# Altium integrated library NSC Logic Latch.IntLib: 65 symbols (part 1 of 2)
Pins are listed as number, name and electrical type; pins without a type are passive.

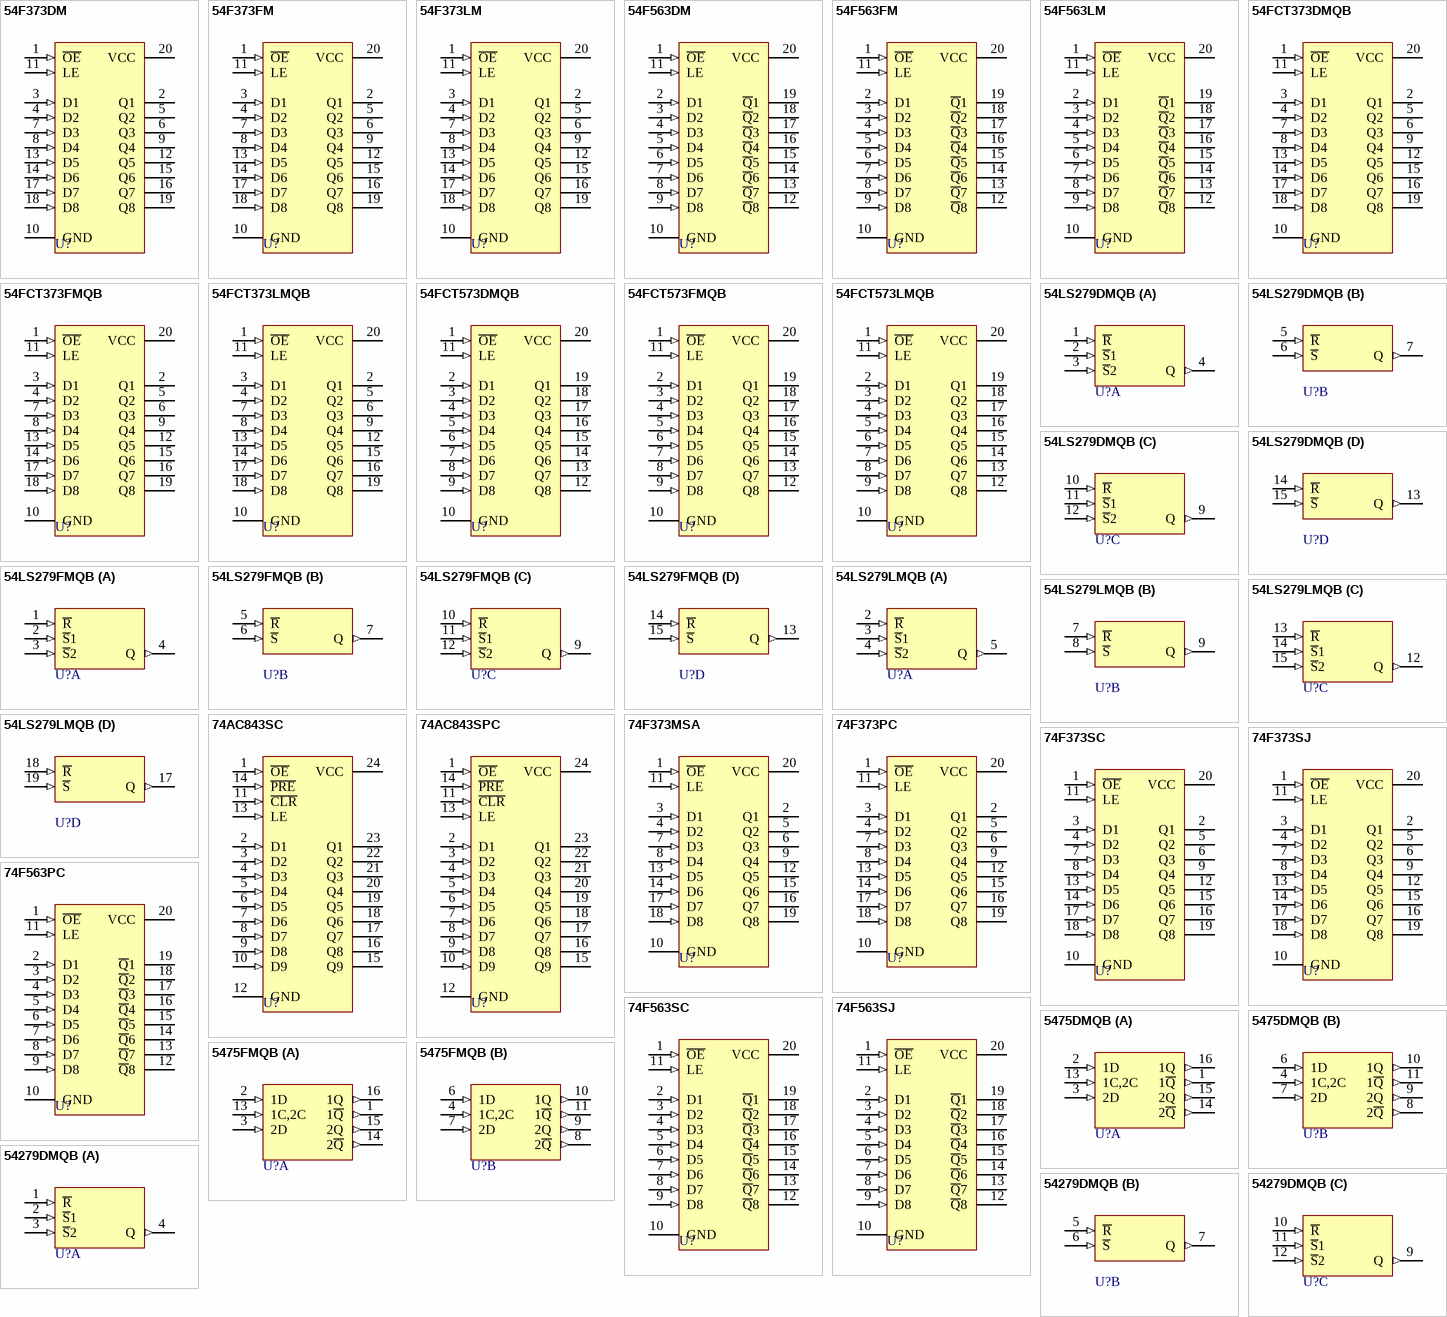
[diagram p0: symbols 54F373DM to 54279DMQB]

## 54F373DM
designator U?
Octal Transparent Latch with Tri-State Output; ComponentAvailability: Obsolete; Published: 15-Apr-2002; LatestRevisionDate: 06-Jun-2005; LatestRevisionNote: Stylized 3D Model Added.; DatasheetVersion: May-1995; PackageVersion: 2000; PackageReference: J20A; Publisher: Altium Limited; PackageDescription: DIP; 20 Leads; Row Spacing 7.62 mm; Pitch 2.54 mm; Code_JEDEC: MS-015-AE; ComponentLink1Description: Manufacturer Link; ComponentLink1URL: http://www.national.com/; ComponentLink2Description: Datasheet; ComponentLink2URL: http://www.national.com/ds.cgi/54/54F373.pdf; ComponentLink3Description: Discontinuation Notice; ComponentLink3URL: http://www.national.com/obs/obsolescence.txt; ComponentLink4Description: URL Link1; ComponentLink4URL: http://www.national.com/pf/54/54F373.html
footprint J20A (DIP; 20 Leads; Row Spacing 7.62 mm; Pitch 2.54 mm)
3D model J20A (DIP; 20 Leads; Row Spacing 7.62 mm; Pitch 2.54 mm)
simulation model 74F373 (SIMCODE)
signal-integrity model 54F373DM
pins: 1 ~{OE} (in), 2 Q1 (hiz), 3 D1 (in), 4 D2 (in), 5 Q2 (hiz), 6 Q3 (hiz), 7 D3 (in), 8 D4 (in), 9 Q4 (hiz), 10 GND (power), 11 LE (in), 12 Q5 (hiz), 13 D5 (in), 14 D6 (in), 15 Q6 (hiz), 16 Q7 (hiz), 17 D7 (in), 18 D8 (in), 19 Q8 (hiz), 20 VCC (power)

## 54F373FM
designator U?
Octal Transparent Latch with Tri-State Output; Published: 15-Apr-2002; LatestRevisionDate: 06-Jun-2005; LatestRevisionNote: Stylized 3D Model Added.; DatasheetVersion: May-1995; PackageVersion: 2000; PackageReference: W20A; Publisher: Altium Limited; PackageDescription: DFP; 20 Leads; Body 13.7 x 7.2 mm (LxW max); Pitch 1.27 mm; ComponentLink1Description: Manufacturer Link; ComponentLink1URL: http://www.national.com/; ComponentLink2Description: Datasheet; ComponentLink2URL: http://www.national.com/ds.cgi/54/54F373.pdf; ComponentLink3Description: URL Link1; ComponentLink3URL: http://www.national.com/pf/54/54F373.html
footprint W20A (DFP; 20 Leads; Body 13.7 x 7.2 mm (LxW max); Pitch 1.27 mm)
3D model W20A (DFP; 20 Leads; Body 13.7 x 7.2 mm (LxW max); Pitch 1.27 mm)
simulation model 74F373 (SIMCODE)
signal-integrity model 54F373FM
pins: 1 ~{OE} (in), 2 Q1 (hiz), 3 D1 (in), 4 D2 (in), 5 Q2 (hiz), 6 Q3 (hiz), 7 D3 (in), 8 D4 (in), 9 Q4 (hiz), 10 GND (power), 11 LE (in), 12 Q5 (hiz), 13 D5 (in), 14 D6 (in), 15 Q6 (hiz), 16 Q7 (hiz), 17 D7 (in), 18 D8 (in), 19 Q8 (hiz), 20 VCC (power)

## 54F373LM
designator U?
Octal Transparent Latch with Tri-State Output; Published: 15-Apr-2002; DatasheetVersion: May-1995; PackageVersion: 2000; PackageReference: E20A; Publisher: Altium Limited; PackageDescription: Leadless Chip Carrier; 20 Terminals; Body 8.9 x 8.9 mm; ComponentLink1Description: Manufacturer Link; ComponentLink1URL: http://www.national.com/; ComponentLink2Description: Datasheet; ComponentLink2URL: http://www.national.com/ds.cgi/54/54F373.pdf; ComponentLink3Description: URL Link1; ComponentLink3URL: http://www.national.com/pf/54/54F373.html
footprint E20A (Leadless Chip Carrier; 20 Terminals; Body 8.9 x 8.9 mm)
signal-integrity model 54F373LM
pins: 1 ~{OE} (in), 2 Q1 (hiz), 3 D1 (in), 4 D2 (in), 5 Q2 (hiz), 6 Q3 (hiz), 7 D3 (in), 8 D4 (in), 9 Q4 (hiz), 10 GND (power), 11 LE (in), 12 Q5 (hiz), 13 D5 (in), 14 D6 (in), 15 Q6 (hiz), 16 Q7 (hiz), 17 D7 (in), 18 D8 (in), 19 Q8 (hiz), 20 VCC (power)

## 54F563DM
designator U?
Octal D-Type Latch with Tri-State Output; Published: 15-Apr-2002; LatestRevisionDate: 06-Jun-2005; LatestRevisionNote: Stylized 3D Model Added.; DatasheetVersion: May-1995; PackageVersion: 2000; PackageReference: J20A; Publisher: Altium Limited; PackageDescription: DIP; 20 Leads; Row Spacing 7.62 mm; Pitch 2.54 mm; Code_JEDEC: MS-015-AE; ComponentLink1Description: Manufacturer Link; ComponentLink1URL: http://www.national.com/; ComponentLink2Description: Datasheet; ComponentLink2URL: http://www.national.com/ds.cgi/54/54F563.pdf; ComponentLink3Description: URL Link1; ComponentLink3URL: http://www.national.com/pf/54/54F563.html
footprint J20A (DIP; 20 Leads; Row Spacing 7.62 mm; Pitch 2.54 mm)
3D model J20A (DIP; 20 Leads; Row Spacing 7.62 mm; Pitch 2.54 mm)
signal-integrity model 54F563DM
pins: 1 ~{OE} (in), 2 D1 (in), 3 D2 (in), 4 D3 (in), 5 D4 (in), 6 D5 (in), 7 D6 (in), 8 D7 (in), 9 D8 (in), 10 GND (power), 11 LE (in), 12 ~{Q}8 (hiz), 13 ~{Q}7 (hiz), 14 ~{Q}6 (hiz), 15 ~{Q}5 (hiz), 16 ~{Q}4 (hiz), 17 ~{Q}3 (hiz), 18 ~{Q}2 (hiz), 19 ~{Q}1 (hiz), 20 VCC (power)

## 54F563FM
designator U?
Octal D-Type Latch with Tri-State Output; Published: 15-Apr-2002; LatestRevisionDate: 06-Jun-2005; LatestRevisionNote: Stylized 3D Model Added.; DatasheetVersion: May-1995; PackageVersion: 2000; PackageReference: W20A; Publisher: Altium Limited; PackageDescription: DFP; 20 Leads; Body 13.7 x 7.2 mm (LxW max); Pitch 1.27 mm; ComponentLink1Description: Manufacturer Link; ComponentLink1URL: http://www.national.com/; ComponentLink2Description: Datasheet; ComponentLink2URL: http://www.national.com/ds.cgi/54/54F563.pdf; ComponentLink3Description: URL Link1; ComponentLink3URL: http://www.national.com/pf/54/54F563.html
footprint W20A (DFP; 20 Leads; Body 13.7 x 7.2 mm (LxW max); Pitch 1.27 mm)
3D model W20A (DFP; 20 Leads; Body 13.7 x 7.2 mm (LxW max); Pitch 1.27 mm)
signal-integrity model 54F563FM
pins: 1 ~{OE} (in), 2 D1 (in), 3 D2 (in), 4 D3 (in), 5 D4 (in), 6 D5 (in), 7 D6 (in), 8 D7 (in), 9 D8 (in), 10 GND (power), 11 LE (in), 12 ~{Q}8 (hiz), 13 ~{Q}7 (hiz), 14 ~{Q}6 (hiz), 15 ~{Q}5 (hiz), 16 ~{Q}4 (hiz), 17 ~{Q}3 (hiz), 18 ~{Q}2 (hiz), 19 ~{Q}1 (hiz), 20 VCC (power)

## 54F563LM
designator U?
Octal D-Type Latch with Tri-State Output; Published: 15-Apr-2002; DatasheetVersion: May-1995; PackageVersion: 2000; PackageReference: E20A; Publisher: Altium Limited; PackageDescription: Leadless Chip Carrier; 20 Terminals; Body 8.9 x 8.9 mm; ComponentLink1Description: Manufacturer Link; ComponentLink1URL: http://www.national.com/; ComponentLink2Description: Datasheet; ComponentLink2URL: http://www.national.com/ds.cgi/54/54F563.pdf; ComponentLink3Description: URL Link1; ComponentLink3URL: http://www.national.com/pf/54/54F563.html
footprint E20A (Leadless Chip Carrier; 20 Terminals; Body 8.9 x 8.9 mm)
signal-integrity model 54F563LM
pins: 1 ~{OE} (in), 2 D1 (in), 3 D2 (in), 4 D3 (in), 5 D4 (in), 6 D5 (in), 7 D6 (in), 8 D7 (in), 9 D8 (in), 10 GND (power), 11 LE (in), 12 ~{Q}8 (hiz), 13 ~{Q}7 (hiz), 14 ~{Q}6 (hiz), 15 ~{Q}5 (hiz), 16 ~{Q}4 (hiz), 17 ~{Q}3 (hiz), 18 ~{Q}2 (hiz), 19 ~{Q}1 (hiz), 20 VCC (power)

## 54FCT373DMQB
designator U?
Octal Transparent Latch with Tri-State Output; Published: 15-Apr-2002; LatestRevisionDate: 06-Jun-2005; LatestRevisionNote: Stylized 3D Model Added.; DatasheetVersion: Oct-1999; PackageVersion: 2000; PackageReference: J20A; Publisher: Altium Limited; PackageDescription: DIP; 20 Leads; Row Spacing 7.62 mm; Pitch 2.54 mm; Code_JEDEC: MS-015-AE; ComponentLink1Description: Manufacturer Link; ComponentLink1URL: http://www.national.com/; ComponentLink2Description: Datasheet; ComponentLink2URL: http://www.national.com/ds.cgi/54/54FCT373.pdf; ComponentLink3Description: URL Link1; ComponentLink3URL: http://www.national.com/pf/54/54FCT373.html
footprint J20A (DIP; 20 Leads; Row Spacing 7.62 mm; Pitch 2.54 mm)
3D model J20A (DIP; 20 Leads; Row Spacing 7.62 mm; Pitch 2.54 mm)
signal-integrity model 54FCT373DMQB
pins: 1 ~{OE} (in), 2 Q1 (hiz), 3 D1 (in), 4 D2 (in), 5 Q2 (hiz), 6 Q3 (hiz), 7 D3 (in), 8 D4 (in), 9 Q4 (hiz), 10 GND (power), 11 LE (in), 12 Q5 (hiz), 13 D5 (in), 14 D6 (in), 15 Q6 (hiz), 16 Q7 (hiz), 17 D7 (in), 18 D8 (in), 19 Q8 (hiz), 20 VCC (power)

## 54FCT373FMQB
designator U?
Octal Transparent Latch with Tri-State Output; Published: 15-Apr-2002; LatestRevisionDate: 06-Jun-2005; LatestRevisionNote: Stylized 3D Model Added.; DatasheetVersion: Oct-1999; PackageVersion: 2000; PackageReference: W20A; Publisher: Altium Limited; PackageDescription: DFP; 20 Leads; Body 13.7 x 7.2 mm (LxW max); Pitch 1.27 mm; ComponentLink1Description: Manufacturer Link; ComponentLink1URL: http://www.national.com/; ComponentLink2Description: Datasheet; ComponentLink2URL: http://www.national.com/ds.cgi/54/54FCT373.pdf; ComponentLink3Description: URL Link1; ComponentLink3URL: http://www.national.com/pf/54/54FCT373.html
footprint W20A (DFP; 20 Leads; Body 13.7 x 7.2 mm (LxW max); Pitch 1.27 mm)
3D model W20A (DFP; 20 Leads; Body 13.7 x 7.2 mm (LxW max); Pitch 1.27 mm)
signal-integrity model 54FCT373FMQB
pins: 1 ~{OE} (in), 2 Q1 (hiz), 3 D1 (in), 4 D2 (in), 5 Q2 (hiz), 6 Q3 (hiz), 7 D3 (in), 8 D4 (in), 9 Q4 (hiz), 10 GND (power), 11 LE (in), 12 Q5 (hiz), 13 D5 (in), 14 D6 (in), 15 Q6 (hiz), 16 Q7 (hiz), 17 D7 (in), 18 D8 (in), 19 Q8 (hiz), 20 VCC (power)

## 54FCT373LMQB
designator U?
Octal Transparent Latch with Tri-State Output; Published: 15-Apr-2002; DatasheetVersion: Oct-1999; PackageVersion: 2000; PackageReference: E20A; Publisher: Altium Limited; PackageDescription: Leadless Chip Carrier; 20 Terminals; Body 8.9 x 8.9 mm; ComponentLink1Description: Manufacturer Link; ComponentLink1URL: http://www.national.com/; ComponentLink2Description: Datasheet; ComponentLink2URL: http://www.national.com/ds.cgi/54/54FCT373.pdf; ComponentLink3Description: URL Link1; ComponentLink3URL: http://www.national.com/pf/54/54FCT373.html
footprint E20A (Leadless Chip Carrier; 20 Terminals; Body 8.9 x 8.9 mm)
signal-integrity model 54FCT373LMQB
pins: 1 ~{OE} (in), 2 Q1 (hiz), 3 D1 (in), 4 D2 (in), 5 Q2 (hiz), 6 Q3 (hiz), 7 D3 (in), 8 D4 (in), 9 Q4 (hiz), 10 GND (power), 11 LE (in), 12 Q5 (hiz), 13 D5 (in), 14 D6 (in), 15 Q6 (hiz), 16 Q7 (hiz), 17 D7 (in), 18 D8 (in), 19 Q8 (hiz), 20 VCC (power)

## 54FCT573DMQB
designator U?
Octal D-Type Latch with Tri-State Output; Published: 15-Apr-2002; LatestRevisionDate: 06-Jun-2005; LatestRevisionNote: Stylized 3D Model Added.; DatasheetVersion: Aug-1998; PackageVersion: 2000; PackageReference: J20A; Publisher: Altium Limited; PackageDescription: DIP; 20 Leads; Row Spacing 7.62 mm; Pitch 2.54 mm; Code_JEDEC: MS-015-AE; ComponentLink1Description: Manufacturer Link; ComponentLink1URL: http://www.national.com/; ComponentLink2Description: Datasheet; ComponentLink2URL: http://www.national.com/ds.cgi/54/54FCT573.pdf; ComponentLink3Description: URL Link1; ComponentLink3URL: http://www.national.com/pf/54/54FCT573.html
footprint J20A (DIP; 20 Leads; Row Spacing 7.62 mm; Pitch 2.54 mm)
3D model J20A (DIP; 20 Leads; Row Spacing 7.62 mm; Pitch 2.54 mm)
signal-integrity model 54FCT573DMQB
pins: 1 ~{OE} (in), 2 D1 (in), 3 D2 (in), 4 D3 (in), 5 D4 (in), 6 D5 (in), 7 D6 (in), 8 D7 (in), 9 D8 (in), 10 GND (power), 11 LE (in), 12 Q8 (hiz), 13 Q7 (hiz), 14 Q6 (hiz), 15 Q5 (hiz), 16 Q4 (hiz), 17 Q3 (hiz), 18 Q2 (hiz), 19 Q1 (hiz), 20 VCC (power)

## 54FCT573FMQB
designator U?
Octal D-Type Latch with Tri-State Output; Published: 15-Apr-2002; LatestRevisionDate: 06-Jun-2005; LatestRevisionNote: Stylized 3D Model Added.; DatasheetVersion: Aug-1998; PackageVersion: 2000; PackageReference: W20A; Publisher: Altium Limited; PackageDescription: DFP; 20 Leads; Body 13.7 x 7.2 mm (LxW max); Pitch 1.27 mm; ComponentLink1Description: Manufacturer Link; ComponentLink1URL: http://www.national.com/; ComponentLink2Description: Datasheet; ComponentLink2URL: http://www.national.com/ds.cgi/54/54FCT573.pdf; ComponentLink3Description: URL Link1; ComponentLink3URL: http://www.national.com/pf/54/54FCT573.html
footprint W20A (DFP; 20 Leads; Body 13.7 x 7.2 mm (LxW max); Pitch 1.27 mm)
3D model W20A (DFP; 20 Leads; Body 13.7 x 7.2 mm (LxW max); Pitch 1.27 mm)
signal-integrity model 54FCT573FMQB
pins: 1 ~{OE} (in), 2 D1 (in), 3 D2 (in), 4 D3 (in), 5 D4 (in), 6 D5 (in), 7 D6 (in), 8 D7 (in), 9 D8 (in), 10 GND (power), 11 LE (in), 12 Q8 (hiz), 13 Q7 (hiz), 14 Q6 (hiz), 15 Q5 (hiz), 16 Q4 (hiz), 17 Q3 (hiz), 18 Q2 (hiz), 19 Q1 (hiz), 20 VCC (power)

## 54FCT573LMQB
designator U?
Octal D-Type Latch with Tri-State Output; Published: 15-Apr-2002; DatasheetVersion: Aug-1998; PackageVersion: 2000; PackageReference: E20A; Publisher: Altium Limited; PackageDescription: Leadless Chip Carrier; 20 Terminals; Body 8.9 x 8.9 mm; ComponentLink1Description: Manufacturer Link; ComponentLink1URL: http://www.national.com/; ComponentLink2Description: Datasheet; ComponentLink2URL: http://www.national.com/ds.cgi/54/54FCT573.pdf; ComponentLink3Description: URL Link1; ComponentLink3URL: http://www.national.com/pf/54/54FCT573.html
footprint E20A (Leadless Chip Carrier; 20 Terminals; Body 8.9 x 8.9 mm)
signal-integrity model 54FCT573LMQB
pins: 1 ~{OE} (in), 2 D1 (in), 3 D2 (in), 4 D3 (in), 5 D4 (in), 6 D5 (in), 7 D6 (in), 8 D7 (in), 9 D8 (in), 10 GND (power), 11 LE (in), 12 Q8 (hiz), 13 Q7 (hiz), 14 Q6 (hiz), 15 Q5 (hiz), 16 Q4 (hiz), 17 Q3 (hiz), 18 Q2 (hiz), 19 Q1 (hiz), 20 VCC (power)

## 54LS279DMQB
designator U?
Quad S-R Latch; Published: 15-Apr-2002; LatestRevisionDate: 06-Jun-2005; LatestRevisionNote: Stylized 3D Model Added.; DatasheetVersion: May-1989; PackageVersion: 2000; PackageReference: J16A; Publisher: Altium Limited; PackageDescription: DIP; 16 Leads; Row Spacing 7.62 mm; Pitch 2.54 mm; ComponentLink1Description: Manufacturer Link; ComponentLink1URL: http://www.national.com/; ComponentLink2Description: Datasheet; ComponentLink2URL: http://www.national.com/ds.cgi/54/54LS279.pdf; ComponentLink3Description: URL Link1; ComponentLink3URL: http://www.national.com/pf/54/54LS279.html
footprint J16A (DIP; 16 Leads; Row Spacing 7.62 mm; Pitch 2.54 mm)
3D model N16E (DIP; 16 Leads; Row Spacing 7.62 mm; Pitch 2.54 mm)
signal-integrity model 54LS279DMQB
pins on every part: 8 GND (power) hidden to GND, 16 VCC (power) hidden to VCC
part A pins: 1 ~{R} (in), 2 ~{S}1 (in), 3 ~{S}2 (in), 4 Q (out)
part B pins: 5 ~{R} (in), 6 ~{S} (in), 7 Q (out)
part C pins: 9 Q (out), 10 ~{R} (in), 11 ~{S}1 (in), 12 ~{S}2 (in)
part D pins: 13 Q (out), 14 ~{R} (in), 15 ~{S} (in)

## 54LS279FMQB
designator U?
Quad S-R Latch; Published: 15-Apr-2002; LatestRevisionDate: 06-Jun-2005; LatestRevisionNote: Stylized 3D Model Added.; DatasheetVersion: May-1989; PackageVersion: 2000; PackageReference: W16A; Publisher: Altium Limited; PackageDescription: DFP; 16 Leads; Body 9.9 x 7.6 mm (LxW max); Pitch 1.27 mm; ComponentLink1Description: Manufacturer Link; ComponentLink1URL: http://www.national.com/; ComponentLink2Description: Datasheet; ComponentLink2URL: http://www.national.com/ds.cgi/54/54LS279.pdf; ComponentLink3Description: URL Link1; ComponentLink3URL: http://www.national.com/pf/54/54LS279.html
footprint W16A (DFP; 16 Leads; Body 9.9 x 7.6 mm (LxW max); Pitch 1.27 mm)
3D model W16A (DFP; 16 Leads; Body 9.9 x 7.6 mm (LxW max); Pitch 1.27 mm)
signal-integrity model 54LS279FMQB
pins on every part: 8 GND (power) hidden to GND, 16 VCC (power) hidden to VCC
part A pins: 1 ~{R} (in), 2 ~{S}1 (in), 3 ~{S}2 (in), 4 Q (out)
part B pins: 5 ~{R} (in), 6 ~{S} (in), 7 Q (out)
part C pins: 9 Q (out), 10 ~{R} (in), 11 ~{S}1 (in), 12 ~{S}2 (in)
part D pins: 13 Q (out), 14 ~{R} (in), 15 ~{S} (in)

## 54LS279LMQB
designator U?
Quad S-R Latch; Note: Pins 1,6,11 and 16 are not connected and not drawn; Published: 15-Apr-2002; DatasheetVersion: May-1989; PackageVersion: 2000; PackageReference: E20A; Publisher: Altium Limited; PackageDescription: Leadless Chip Carrier; 20 Terminals; Body 8.9 x 8.9 mm; ComponentLink1Description: Manufacturer Link; ComponentLink1URL: http://www.national.com/; ComponentLink2Description: Datasheet; ComponentLink2URL: http://www.national.com/ds.cgi/54/54LS279.pdf; ComponentLink3Description: URL Link1; ComponentLink3URL: http://www.national.com/pf/54/54LS279.html
footprint E20A (Leadless Chip Carrier; 20 Terminals; Body 8.9 x 8.9 mm)
signal-integrity model 54LS279LMQB
pins on every part: 10 GND (power) hidden to GND, 20 VCC (power) hidden to VCC
part A pins: 2 ~{R} (in), 3 ~{S}1 (in), 4 ~{S}2 (in), 5 Q (out)
part B pins: 7 ~{R} (in), 8 ~{S} (in), 9 Q (out)
part C pins: 12 Q (out), 13 ~{R} (in), 14 ~{S}1 (in), 15 ~{S}2 (in)
part D pins: 17 Q (out), 18 ~{R} (in), 19 ~{S} (in)

## 74AC843SC
designator U?
9-Bit Transparent Latch; Published: 15-Apr-2002; LatestRevisionDate: 13-Apr-2006; LatestRevisionNote: IPC-7351 Footprint Added.; DatasheetVersion: Apr-1993; PackageVersion: 2000; PackageReference: M24B; Publisher: Altium Limited; PackageDescription: 24-Pin Small Outline Integrated Circuit 1.27 mm Pitch; ComponentLink1Description: Manufacturer Link; ComponentLink1URL: http://www.national.com/
footprint M24B_N (SOIC, 24-Leads, Body 15.4x7.5mm, Pitch 1.27mm, IPC Medium Density)
footprint M24B_L (SOIC, 24-Leads, Body 15.4x7.5mm, Pitch 1.27mm, IPC High Density)
footprint M24B_M (SOIC, 24-Leads, Body 15.4x7.5mm, Pitch 1.27mm, IPC Low Density)
3D model M24B (24-Pin Small Outline Integrated Circuit 1.27 mm Pitch)
signal-integrity model 74AC843SC
pins: 1 ~{OE} (in), 2 D1 (in), 3 D2 (in), 4 D3 (in), 5 D4 (in), 6 D5 (in), 7 D6 (in), 8 D7 (in), 9 D8 (in), 10 D9 (in), 11 ~{CLR} (in), 12 GND (power), 13 LE (in), 14 ~{PRE} (in), 15 Q9 (hiz), 16 Q8 (hiz), 17 Q7 (hiz), 18 Q6 (hiz), 19 Q5 (hiz), 20 Q4 (hiz), 21 Q3 (hiz), 22 Q2 (hiz), 23 Q1 (hiz), 24 VCC (power)

## 74AC843SPC
designator U?
9-Bit Transparent Latch; Published: 15-Apr-2002; LatestRevisionDate: 06-Jun-2005; LatestRevisionNote: Stylized 3D Model Added.; DatasheetVersion: Apr-1993; PackageVersion: 2000; PackageReference: N24C; Publisher: Altium Limited; PackageDescription: DIP; 24 Leads; Row Spacing 7.62 mm; Pitch 2.54 mm; Code_JEDEC: MS-001-AF; ComponentLink1Description: Manufacturer Link; ComponentLink1URL: http://www.national.com/
footprint N24C (DIP; 24 Leads; Row Spacing 7.62 mm; Pitch 2.54 mm)
3D model N24C (DIP; 24 Leads; Row Spacing 7.62 mm; Pitch 2.54 mm)
signal-integrity model 74AC843SPC
pins: 1 ~{OE} (in), 2 D1 (in), 3 D2 (in), 4 D3 (in), 5 D4 (in), 6 D5 (in), 7 D6 (in), 8 D7 (in), 9 D8 (in), 10 D9 (in), 11 ~{CLR} (in), 12 GND (power), 13 LE (in), 14 ~{PRE} (in), 15 Q9 (hiz), 16 Q8 (hiz), 17 Q7 (hiz), 18 Q6 (hiz), 19 Q5 (hiz), 20 Q4 (hiz), 21 Q3 (hiz), 22 Q2 (hiz), 23 Q1 (hiz), 24 VCC (power)

## 74F373MSA
designator U?
Octal Transparent Latch with Tri-State Output; Published: 15-Apr-2002; LatestRevisionDate: 06-Jun-2005; LatestRevisionNote: Stylized 3D Model Added.; DatasheetVersion: May-1995; PackageVersion: 2000; PackageReference: MSA20; Publisher: Altium Limited; PackageDescription: SSOP; 20 Leads; Body Width 5.3 mm; Pitch 0.65 mm; ComponentLink1Description: Manufacturer Link; ComponentLink1URL: http://www.national.com/; ComponentLink2Description: Datasheet; ComponentLink2URL: http://www.fairchildsemi.com/ds/74/74F373.pdf; ComponentLink3Description: URL Link1; ComponentLink3URL: http://www.fairchildsemi.com/pf/74/74F373.html
footprint MSA20 (SSOP; 20 Leads; Body Width 5.3 mm; Pitch 0.65 mm)
3D model MSA20 (SSOP; 20 Leads; Body Width 5.3 mm; Pitch 0.65 mm)
simulation model 74F373 (SIMCODE)
signal-integrity model 74F373MSA
pins: 1 ~{OE} (in), 2 Q1 (hiz), 3 D1 (in), 4 D2 (in), 5 Q2 (hiz), 6 Q3 (hiz), 7 D3 (in), 8 D4 (in), 9 Q4 (hiz), 10 GND (power), 11 LE (in), 12 Q5 (hiz), 13 D5 (in), 14 D6 (in), 15 Q6 (hiz), 16 Q7 (hiz), 17 D7 (in), 18 D8 (in), 19 Q8 (hiz), 20 VCC (power)

## 74F373PC
designator U?
Octal Transparent Latch with Tri-State Output; Published: 15-Apr-2002; LatestRevisionDate: 06-Jun-2005; LatestRevisionNote: Stylized 3D Model Added.; DatasheetVersion: May-1995; PackageVersion: 2000; PackageReference: N20A; Publisher: Altium Limited; PackageDescription: DIP; 20 Leads; Row Spacing 7.62 mm; Pitch 2.54 mm; Code_JEDEC: MS-001-AD; ComponentLink1Description: Manufacturer Link; ComponentLink1URL: http://www.national.com/; ComponentLink2Description: Datasheet; ComponentLink2URL: http://www.fairchildsemi.com/ds/74/74F373.pdf; ComponentLink3Description: URL Link1; ComponentLink3URL: http://www.fairchildsemi.com/pf/74/74F373.html
footprint N20A (DIP; 20 Leads; Row Spacing 7.62 mm; Pitch 2.54 mm)
3D model N20A (DIP; 20 Leads; Row Spacing 7.62 mm; Pitch 2.54 mm)
simulation model 74F373 (SIMCODE)
signal-integrity model 74F373PC
pins: 1 ~{OE} (in), 2 Q1 (hiz), 3 D1 (in), 4 D2 (in), 5 Q2 (hiz), 6 Q3 (hiz), 7 D3 (in), 8 D4 (in), 9 Q4 (hiz), 10 GND (power), 11 LE (in), 12 Q5 (hiz), 13 D5 (in), 14 D6 (in), 15 Q6 (hiz), 16 Q7 (hiz), 17 D7 (in), 18 D8 (in), 19 Q8 (hiz), 20 VCC (power)

## 74F373SC
designator U?
Octal Transparent Latch with Tri-State Output; Published: 15-Apr-2002; LatestRevisionDate: 13-Apr-2006; LatestRevisionNote: IPC-7351 Footprint Added.; DatasheetVersion: May-1995; PackageVersion: 2000; PackageReference: M20B; Publisher: Altium Limited; PackageDescription: 20-Pin Small Outline Integrated Circuit 1.27 mm Pitch; Code_JEDEC: MS-013-AC; Code_IPC: SOIC127P1030-20; ComponentLink1Description: Manufacturer Link; ComponentLink1URL: http://www.national.com/; ComponentLink2Description: Datasheet; ComponentLink2URL: http://www.fairchildsemi.com/ds/74/74F373.pdf; ComponentLink3Description: URL Link1; ComponentLink3URL: http://www.fairchildsemi.com/pf/74/74F373.html
footprint M20B_N (SOIC, 20-Leads, Body 12.8x7.5mm, Pitch 1.27mm, IPC Medium Density)
footprint M20B_L (SOIC, 20-Leads, Body 12.8x7.5mm, Pitch 1.27mm, IPC High Density)
footprint M20B_M (SOIC, 20-Leads, Body 12.8x7.5mm, Pitch 1.27mm, IPC Low Density)
3D model M20B (20-Pin Small Outline Integrated Circuit 1.27 mm Pitch)
simulation model 74F373 (SIMCODE)
signal-integrity model 74F373SC
pins: 1 ~{OE} (in), 2 Q1 (hiz), 3 D1 (in), 4 D2 (in), 5 Q2 (hiz), 6 Q3 (hiz), 7 D3 (in), 8 D4 (in), 9 Q4 (hiz), 10 GND (power), 11 LE (in), 12 Q5 (hiz), 13 D5 (in), 14 D6 (in), 15 Q6 (hiz), 16 Q7 (hiz), 17 D7 (in), 18 D8 (in), 19 Q8 (hiz), 20 VCC (power)

## 74F373SJ
designator U?
Octal Transparent Latch with Tri-State Output; Published: 15-Apr-2002; LatestRevisionDate: 13-Apr-2006; LatestRevisionNote: IPC-7351 Footprint Added.; DatasheetVersion: May-1995; PackageVersion: 2000; PackageReference: M20D; Publisher: Altium Limited; PackageDescription: 20-Pin Small Outline Package 1.27 mm Pitch; ComponentLink1Description: Manufacturer Link; ComponentLink1URL: http://www.national.com/; ComponentLink2Description: Datasheet; ComponentLink2URL: http://www.fairchildsemi.com/ds/74/74F373.pdf; ComponentLink3Description: URL Link1; ComponentLink3URL: http://www.fairchildsemi.com/pf/74/74F373.html
footprint M20D_N (SOP, 20-Leads, Body 12.6x5.3mm, Pitch 1.27mm, IPC Medium Density)
footprint M20D_L (SOP, 20-Leads, Body 12.6x5.3mm, Pitch 1.27mm, IPC High Density)
footprint M20D_M (SOP, 20-Leads, Body 12.6x5.3mm, Pitch 1.27mm, IPC Low Density)
3D model M20D (20-Pin Small Outline Package 1.27 mm Pitch)
simulation model 74F373 (SIMCODE)
signal-integrity model 74F373SJ
pins: 1 ~{OE} (in), 2 Q1 (hiz), 3 D1 (in), 4 D2 (in), 5 Q2 (hiz), 6 Q3 (hiz), 7 D3 (in), 8 D4 (in), 9 Q4 (hiz), 10 GND (power), 11 LE (in), 12 Q5 (hiz), 13 D5 (in), 14 D6 (in), 15 Q6 (hiz), 16 Q7 (hiz), 17 D7 (in), 18 D8 (in), 19 Q8 (hiz), 20 VCC (power)

## 74F563PC
designator U?
Octal D-Type Latch with Tri-State Output; Published: 15-Apr-2002; LatestRevisionDate: 06-Jun-2005; LatestRevisionNote: Stylized 3D Model Added.; DatasheetVersion: May-1995; PackageVersion: 2000; PackageReference: N20A; Publisher: Altium Limited; PackageDescription: DIP; 20 Leads; Row Spacing 7.62 mm; Pitch 2.54 mm; Code_JEDEC: MS-001-AD; ComponentLink1Description: Manufacturer Link; ComponentLink1URL: http://www.national.com/; ComponentLink2Description: Datasheet; ComponentLink2URL: http://www.national.com/ds.cgi/54/54F563.pdf; ComponentLink3Description: URL Link1; ComponentLink3URL: http://www.national.com/pf/54/54F563.html
footprint N20A (DIP; 20 Leads; Row Spacing 7.62 mm; Pitch 2.54 mm)
3D model N20A (DIP; 20 Leads; Row Spacing 7.62 mm; Pitch 2.54 mm)
signal-integrity model 74F563PC
pins: 1 ~{OE} (in), 2 D1 (in), 3 D2 (in), 4 D3 (in), 5 D4 (in), 6 D5 (in), 7 D6 (in), 8 D7 (in), 9 D8 (in), 10 GND (power), 11 LE (in), 12 ~{Q}8 (hiz), 13 ~{Q}7 (hiz), 14 ~{Q}6 (hiz), 15 ~{Q}5 (hiz), 16 ~{Q}4 (hiz), 17 ~{Q}3 (hiz), 18 ~{Q}2 (hiz), 19 ~{Q}1 (hiz), 20 VCC (power)

## 74F563SC
designator U?
Octal D-Type Latch with Tri-State Output; Published: 15-Apr-2002; LatestRevisionDate: 13-Apr-2006; LatestRevisionNote: IPC-7351 Footprint Added.; DatasheetVersion: May-1995; PackageVersion: 2000; PackageReference: M20B; Publisher: Altium Limited; PackageDescription: 20-Pin Small Outline Integrated Circuit 1.27 mm Pitch; Code_JEDEC: MS-013-AC; Code_IPC: SOIC127P1030-20; ComponentLink1Description: Manufacturer Link; ComponentLink1URL: http://www.national.com/; ComponentLink2Description: Datasheet; ComponentLink2URL: http://www.national.com/ds.cgi/54/54F563.pdf; ComponentLink3Description: URL Link1; ComponentLink3URL: http://www.national.com/pf/54/54F563.html
footprint M20B_N (SOIC, 20-Leads, Body 12.8x7.5mm, Pitch 1.27mm, IPC Medium Density)
footprint M20B_L (SOIC, 20-Leads, Body 12.8x7.5mm, Pitch 1.27mm, IPC High Density)
footprint M20B_M (SOIC, 20-Leads, Body 12.8x7.5mm, Pitch 1.27mm, IPC Low Density)
3D model M20B (20-Pin Small Outline Integrated Circuit 1.27 mm Pitch)
signal-integrity model 74F563SC
pins: 1 ~{OE} (in), 2 D1 (in), 3 D2 (in), 4 D3 (in), 5 D4 (in), 6 D5 (in), 7 D6 (in), 8 D7 (in), 9 D8 (in), 10 GND (power), 11 LE (in), 12 ~{Q}8 (hiz), 13 ~{Q}7 (hiz), 14 ~{Q}6 (hiz), 15 ~{Q}5 (hiz), 16 ~{Q}4 (hiz), 17 ~{Q}3 (hiz), 18 ~{Q}2 (hiz), 19 ~{Q}1 (hiz), 20 VCC (power)

## 74F563SJ
designator U?
Octal D-Type Latch with Tri-State Output; Published: 15-Apr-2002; LatestRevisionDate: 13-Apr-2006; LatestRevisionNote: IPC-7351 Footprint Added.; DatasheetVersion: May-1995; PackageVersion: 2000; PackageReference: M20D; Publisher: Altium Limited; PackageDescription: 20-Pin Small Outline Package 1.27 mm Pitch; ComponentLink1Description: Manufacturer Link; ComponentLink1URL: http://www.national.com/; ComponentLink2Description: Datasheet; ComponentLink2URL: http://www.national.com/ds.cgi/54/54F563.pdf; ComponentLink3Description: URL Link1; ComponentLink3URL: http://www.national.com/pf/54/54F563.html
footprint M20D_N (SOP, 20-Leads, Body 12.6x5.3mm, Pitch 1.27mm, IPC Medium Density)
footprint M20D_L (SOP, 20-Leads, Body 12.6x5.3mm, Pitch 1.27mm, IPC High Density)
footprint M20D_M (SOP, 20-Leads, Body 12.6x5.3mm, Pitch 1.27mm, IPC Low Density)
3D model M20D (20-Pin Small Outline Package 1.27 mm Pitch)
signal-integrity model 74F563SJ
pins: 1 ~{OE} (in), 2 D1 (in), 3 D2 (in), 4 D3 (in), 5 D4 (in), 6 D5 (in), 7 D6 (in), 8 D7 (in), 9 D8 (in), 10 GND (power), 11 LE (in), 12 ~{Q}8 (hiz), 13 ~{Q}7 (hiz), 14 ~{Q}6 (hiz), 15 ~{Q}5 (hiz), 16 ~{Q}4 (hiz), 17 ~{Q}3 (hiz), 18 ~{Q}2 (hiz), 19 ~{Q}1 (hiz), 20 VCC (power)

## 5475DMQB
designator U?
Quad Latch; Published: 15-Apr-2002; LatestRevisionDate: 06-Jun-2005; LatestRevisionNote: Stylized 3D Model Added.; DatasheetVersion: Jun-1989; PackageVersion: 2000; PackageReference: J16A; Publisher: Altium Limited; PackageDescription: DIP; 16 Leads; Row Spacing 7.62 mm; Pitch 2.54 mm; ComponentLink1Description: Manufacturer Link; ComponentLink1URL: http://www.national.com/
footprint J16A (DIP; 16 Leads; Row Spacing 7.62 mm; Pitch 2.54 mm)
3D model N16E (DIP; 16 Leads; Row Spacing 7.62 mm; Pitch 2.54 mm)
signal-integrity model 5475DMQB
pins on every part: 5 VCC (power) hidden to VCC, 12 GND (power) hidden to GND
part A pins: 1 1~{Q} (out), 2 1D (in), 3 2D (in), 13 1C,2C (in), 14 2~{Q} (out), 15 2Q (out), 16 1Q (out)
part B pins: 4 1C,2C (in), 6 1D (in), 7 2D (in), 8 2~{Q} (out), 9 2Q (out), 10 1Q (out), 11 1~{Q} (out)

## 5475FMQB
designator U?
Quad Latch; Published: 15-Apr-2002; LatestRevisionDate: 06-Jun-2005; LatestRevisionNote: Stylized 3D Model Added.; DatasheetVersion: Jun-1989; PackageVersion: 2000; PackageReference: W16A; Publisher: Altium Limited; PackageDescription: DFP; 16 Leads; Body 9.9 x 7.6 mm (LxW max); Pitch 1.27 mm; ComponentLink1Description: Manufacturer Link; ComponentLink1URL: http://www.national.com/
footprint W16A (DFP; 16 Leads; Body 9.9 x 7.6 mm (LxW max); Pitch 1.27 mm)
3D model W16A (DFP; 16 Leads; Body 9.9 x 7.6 mm (LxW max); Pitch 1.27 mm)
signal-integrity model 5475FMQB
pins on every part: 5 VCC (power) hidden to VCC, 12 GND (power) hidden to GND
part A pins: 1 1~{Q} (out), 2 1D (in), 3 2D (in), 13 1C,2C (in), 14 2~{Q} (out), 15 2Q (out), 16 1Q (out)
part B pins: 4 1C,2C (in), 6 1D (in), 7 2D (in), 8 2~{Q} (out), 9 2Q (out), 10 1Q (out), 11 1~{Q} (out)

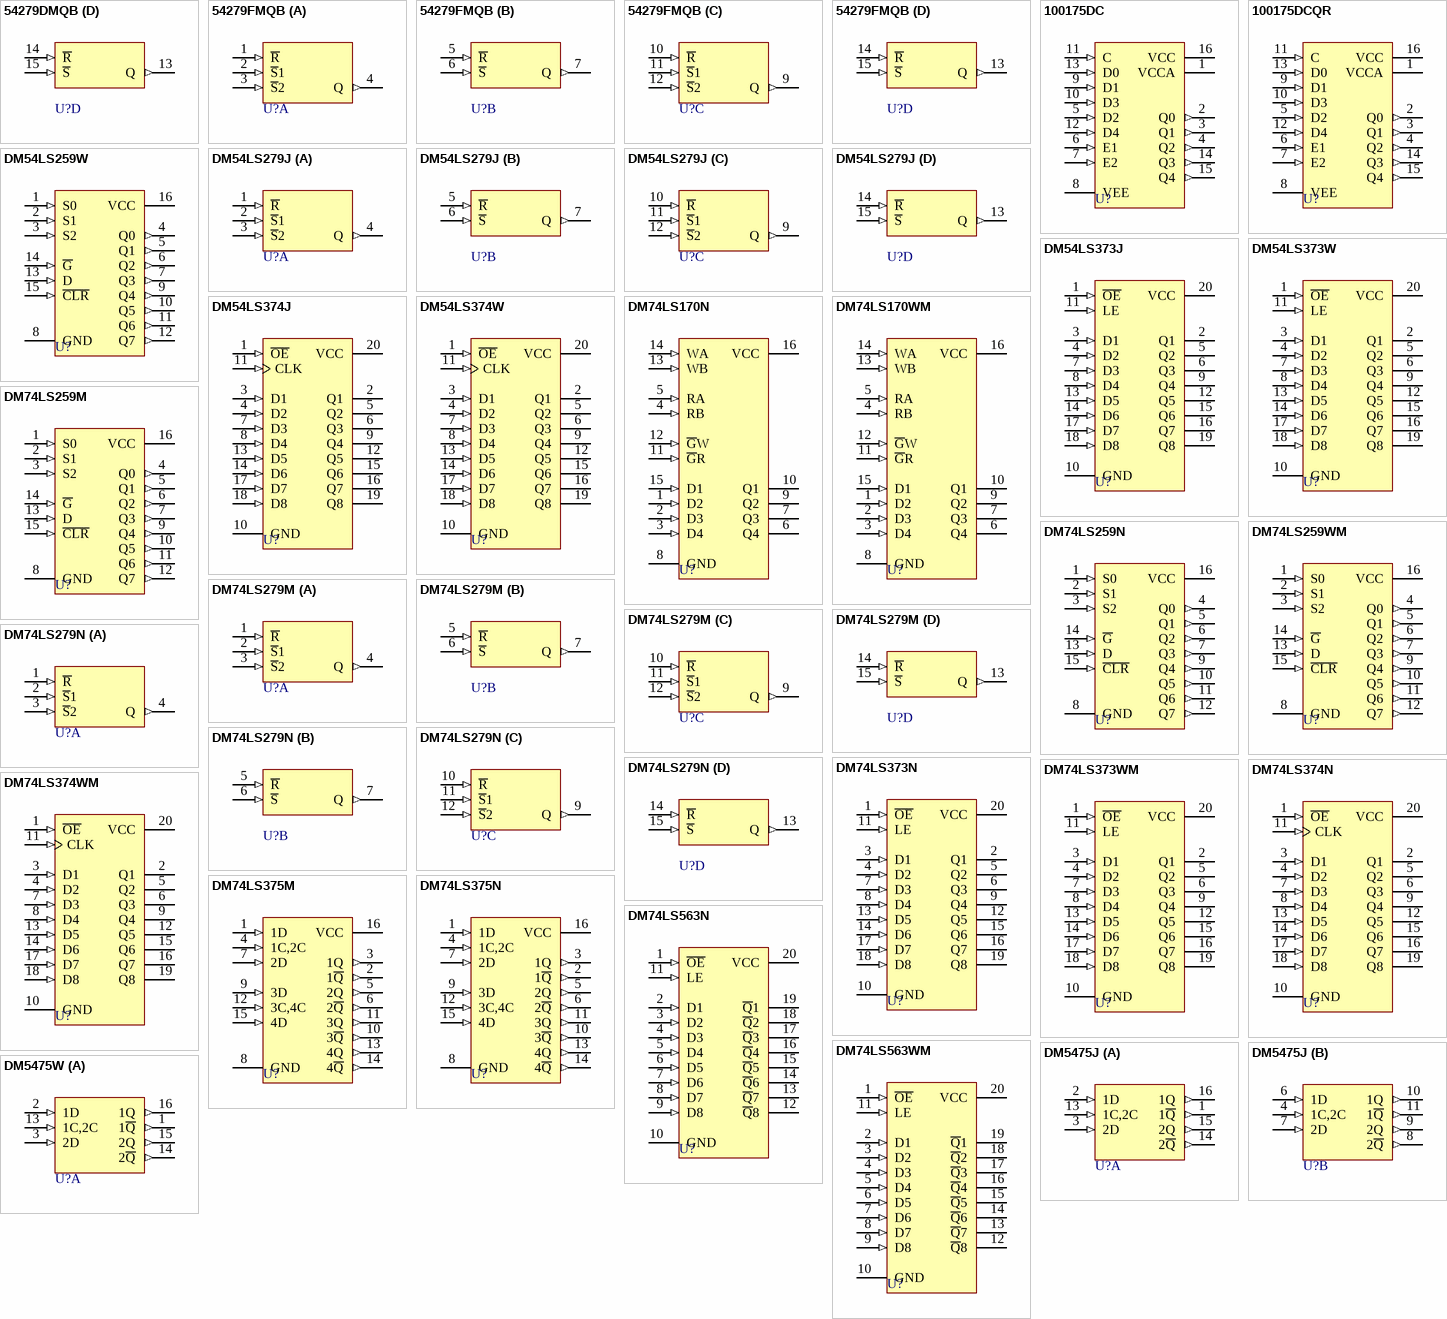
[diagram p1: symbols 54279DMQB to DM5475W]

## 54279DMQB
designator U?
Quad Set-Reset Latch; Published: 15-Apr-2002; LatestRevisionDate: 06-Jun-2005; LatestRevisionNote: Stylized 3D Model Added.; DatasheetVersion: Jun-1989; PackageVersion: 2000; PackageReference: J16A; Publisher: Altium Limited; PackageDescription: DIP; 16 Leads; Row Spacing 7.62 mm; Pitch 2.54 mm; ComponentLink1Description: Manufacturer Link; ComponentLink1URL: http://www.national.com/; ComponentLink2Description: Datasheet; ComponentLink2URL: http://www.national.com/ds.cgi/54/54279.pdf; ComponentLink3Description: URL Link1; ComponentLink3URL: http://www.national.com/pf/54/54279.html
footprint J16A (DIP; 16 Leads; Row Spacing 7.62 mm; Pitch 2.54 mm)
3D model N16E (DIP; 16 Leads; Row Spacing 7.62 mm; Pitch 2.54 mm)
signal-integrity model 54279DMQB
pins on every part: 8 GND (power) hidden to GND, 16 VCC (power) hidden to VCC
part A pins: 1 ~{R} (in), 2 ~{S}1 (in), 3 ~{S}2 (in), 4 Q (out)
part B pins: 5 ~{R} (in), 6 ~{S} (in), 7 Q (out)
part C pins: 9 Q (out), 10 ~{R} (in), 11 ~{S}1 (in), 12 ~{S}2 (in)
part D pins: 13 Q (out), 14 ~{R} (in), 15 ~{S} (in)

## 54279FMQB
designator U?
Quad Set-Reset Latch; Published: 15-Apr-2002; LatestRevisionDate: 06-Jun-2005; LatestRevisionNote: Stylized 3D Model Added.; DatasheetVersion: Jun-1989; PackageVersion: 2000; PackageReference: W16A; Publisher: Altium Limited; PackageDescription: DFP; 16 Leads; Body 9.9 x 7.6 mm (LxW max); Pitch 1.27 mm; ComponentLink1Description: Manufacturer Link; ComponentLink1URL: http://www.national.com/; ComponentLink2Description: Datasheet; ComponentLink2URL: http://www.national.com/ds.cgi/54/54279.pdf; ComponentLink3Description: URL Link1; ComponentLink3URL: http://www.national.com/pf/54/54279.html
footprint W16A (DFP; 16 Leads; Body 9.9 x 7.6 mm (LxW max); Pitch 1.27 mm)
3D model W16A (DFP; 16 Leads; Body 9.9 x 7.6 mm (LxW max); Pitch 1.27 mm)
signal-integrity model 54279FMQB
pins on every part: 8 GND (power) hidden to GND, 16 VCC (power) hidden to VCC
part A pins: 1 ~{R} (in), 2 ~{S}1 (in), 3 ~{S}2 (in), 4 Q (out)
part B pins: 5 ~{R} (in), 6 ~{S} (in), 7 Q (out)
part C pins: 9 Q (out), 10 ~{R} (in), 11 ~{S}1 (in), 12 ~{S}2 (in)
part D pins: 13 Q (out), 14 ~{R} (in), 15 ~{S} (in)

## 100175DC
designator U?
Quint Latch 100K In/10K Out; Published: 15-Apr-2002; LatestRevisionDate: 06-Jun-2005; LatestRevisionNote: Stylized 3D Model Added.; DatasheetVersion: 1992; PackageVersion: 2000; PackageReference: J16A; Publisher: Altium Limited; PackageDescription: DIP; 16 Leads; Row Spacing 7.62 mm; Pitch 2.54 mm; ComponentLink1Description: Manufacturer Link; ComponentLink1URL: http://www.national.com/
footprint J16A (DIP; 16 Leads; Row Spacing 7.62 mm; Pitch 2.54 mm)
3D model N16E (DIP; 16 Leads; Row Spacing 7.62 mm; Pitch 2.54 mm)
pins: 1 VCCA (power), 2 Q0 (out), 3 Q1 (out), 4 Q2 (out), 5 D2 (in), 6 E1 (in), 7 E2 (in), 8 VEE (power), 9 D1 (in), 10 D3 (in), 11 C (in), 12 D4 (in), 13 D0 (in), 14 Q3 (out), 15 Q4 (out), 16 VCC (power)

## 100175DCQR
designator U?
Quint Latch 100K In/10K Out; Published: 15-Apr-2002; LatestRevisionDate: 06-Jun-2005; LatestRevisionNote: Stylized 3D Model Added.; DatasheetVersion: 1992; PackageVersion: 2000; PackageReference: J16A; Publisher: Altium Limited; PackageDescription: DIP; 16 Leads; Row Spacing 7.62 mm; Pitch 2.54 mm; ComponentLink1Description: Manufacturer Link; ComponentLink1URL: http://www.national.com/
footprint J16A (DIP; 16 Leads; Row Spacing 7.62 mm; Pitch 2.54 mm)
3D model N16E (DIP; 16 Leads; Row Spacing 7.62 mm; Pitch 2.54 mm)
pins: 1 VCCA (power), 2 Q0 (out), 3 Q1 (out), 4 Q2 (out), 5 D2 (in), 6 E1 (in), 7 E2 (in), 8 VEE (power), 9 D1 (in), 10 D3 (in), 11 C (in), 12 D4 (in), 13 D0 (in), 14 Q3 (out), 15 Q4 (out), 16 VCC (power)

## DM54LS259W
designator U?
8-Bit Addressable Latch; Published: 15-Apr-2002; LatestRevisionDate: 06-Jun-2005; LatestRevisionNote: Stylized 3D Model Added.; DatasheetVersion: May-1992; PackageVersion: 2000; PackageReference: W16A; Publisher: Altium Limited; PackageDescription: DFP; 16 Leads; Body 9.9 x 7.6 mm (LxW max); Pitch 1.27 mm; ComponentLink1Description: Manufacturer Link; ComponentLink1URL: http://www.national.com/; ComponentLink2Description: Datasheet; ComponentLink2URL: http://www.national.com/ds.cgi/DM/DM54LS259.pdf; ComponentLink3Description: URL Link1; ComponentLink3URL: http://www.national.com/pf/DM/DM54LS259.html
footprint W16A (DFP; 16 Leads; Body 9.9 x 7.6 mm (LxW max); Pitch 1.27 mm)
3D model W16A (DFP; 16 Leads; Body 9.9 x 7.6 mm (LxW max); Pitch 1.27 mm)
simulation model 74LS259 (SIMCODE)
signal-integrity model DM54LS259W
pins: 1 S0 (in), 2 S1 (in), 3 S2 (in), 4 Q0 (out), 5 Q1 (out), 6 Q2 (out), 7 Q3 (out), 8 GND (power), 9 Q4 (out), 10 Q5 (out), 11 Q6 (out), 12 Q7 (out), 13 D (in), 14 ~{G} (in), 15 ~{CLR} (in), 16 VCC (power)

## DM54LS279J
designator U?
Quad S-R Latch; Published: 15-Apr-2002; LatestRevisionDate: 06-Jun-2005; LatestRevisionNote: Stylized 3D Model Added.; DatasheetVersion: May-1989; PackageVersion: 2000; PackageReference: J16A; Publisher: Altium Limited; PackageDescription: DIP; 16 Leads; Row Spacing 7.62 mm; Pitch 2.54 mm; ComponentLink1Description: Manufacturer Link; ComponentLink1URL: http://www.national.com/; ComponentLink2Description: Datasheet; ComponentLink2URL: http://www.national.com/ds.cgi/54/54LS279.pdf; ComponentLink3Description: URL Link1; ComponentLink3URL: http://www.national.com/pf/DM/DM54LS279.html
footprint J16A (DIP; 16 Leads; Row Spacing 7.62 mm; Pitch 2.54 mm)
3D model N16E (DIP; 16 Leads; Row Spacing 7.62 mm; Pitch 2.54 mm)
signal-integrity model DM54LS279J
pins on every part: 8 GND (power) hidden to GND, 16 VCC (power) hidden to VCC
part A pins: 1 ~{R} (in), 2 ~{S}1 (in), 3 ~{S}2 (in), 4 Q (out)
part B pins: 5 ~{R} (in), 6 ~{S} (in), 7 Q (out)
part C pins: 9 Q (out), 10 ~{R} (in), 11 ~{S}1 (in), 12 ~{S}2 (in)
part D pins: 13 Q (out), 14 ~{R} (in), 15 ~{S} (in)

## DM54LS373J
designator U?
Tri-State Octal D-Type Transparent Latch and Edge-Triggered Flip-Flop; Note: Generic Sim model provided.; Published: 15-Apr-2002; LatestRevisionDate: 06-Jun-2005; LatestRevisionNote: Stylized 3D Model Added.; DatasheetVersion: May-1992; PackageVersion: 2000; PackageReference: J20A; Publisher: Altium Limited; PackageDescription: DIP; 20 Leads; Row Spacing 7.62 mm; Pitch 2.54 mm; Code_JEDEC: MS-015-AE; ComponentLink1Description: Manufacturer Link; ComponentLink1URL: http://www.national.com/; ComponentLink2Description: Datasheet; ComponentLink2URL: http://www.national.com/ds.cgi/DM/DM54LS373.pdf; ComponentLink3Description: URL Link1; ComponentLink3URL: http://www.national.com/pf/DM/DM54LS373.html
footprint J20A (DIP; 20 Leads; Row Spacing 7.62 mm; Pitch 2.54 mm)
3D model J20A (DIP; 20 Leads; Row Spacing 7.62 mm; Pitch 2.54 mm)
simulation model 74LS373 (SIMCODE)
signal-integrity model DM54LS373J
pins: 1 ~{OE} (in), 2 Q1 (hiz), 3 D1 (in), 4 D2 (in), 5 Q2 (hiz), 6 Q3 (hiz), 7 D3 (in), 8 D4 (in), 9 Q4 (hiz), 10 GND (power), 11 LE (in), 12 Q5 (hiz), 13 D5 (in), 14 D6 (in), 15 Q6 (hiz), 16 Q7 (hiz), 17 D7 (in), 18 D8 (in), 19 Q8 (hiz), 20 VCC (power)

## DM54LS373W
designator U?
Tri-State Octal D-Type Transparent Latch and Edge-Triggered Flip-Flop; Note: Generic Sim model provided.; Published: 15-Apr-2002; LatestRevisionDate: 06-Jun-2005; LatestRevisionNote: Stylized 3D Model Added.; DatasheetVersion: May-1992; PackageVersion: 2000; PackageReference: W20A; Publisher: Altium Limited; PackageDescription: DFP; 20 Leads; Body 13.7 x 7.2 mm (LxW max); Pitch 1.27 mm; ComponentLink1Description: Manufacturer Link; ComponentLink1URL: http://www.national.com/; ComponentLink2Description: Datasheet; ComponentLink2URL: http://www.national.com/ds.cgi/DM/DM54LS373.pdf; ComponentLink3Description: URL Link1; ComponentLink3URL: http://www.national.com/pf/DM/DM54LS373.html
footprint W20A (DFP; 20 Leads; Body 13.7 x 7.2 mm (LxW max); Pitch 1.27 mm)
3D model W20A (DFP; 20 Leads; Body 13.7 x 7.2 mm (LxW max); Pitch 1.27 mm)
simulation model 74LS373 (SIMCODE)
signal-integrity model DM54LS373W
pins: 1 ~{OE} (in), 2 Q1 (hiz), 3 D1 (in), 4 D2 (in), 5 Q2 (hiz), 6 Q3 (hiz), 7 D3 (in), 8 D4 (in), 9 Q4 (hiz), 10 GND (power), 11 LE (in), 12 Q5 (hiz), 13 D5 (in), 14 D6 (in), 15 Q6 (hiz), 16 Q7 (hiz), 17 D7 (in), 18 D8 (in), 19 Q8 (hiz), 20 VCC (power)

## DM54LS374J
designator U?
Tri-State Octal D-Type Transparent Latch and Edge-Triggered Flip-Flop; ComponentAvailability: Obsolete; Published: 15-Apr-2002; LatestRevisionDate: 06-Jun-2005; LatestRevisionNote: Stylized 3D Model Added.; DatasheetVersion: May-1992; PackageVersion: 2000; PackageReference: J20A; Publisher: Altium Limited; PackageDescription: DIP; 20 Leads; Row Spacing 7.62 mm; Pitch 2.54 mm; Code_JEDEC: MS-015-AE; ComponentLink1Description: Manufacturer Link; ComponentLink1URL: http://www.national.com/; ComponentLink2Description: Datasheet; ComponentLink2URL: http://www.national.com/ds.cgi/DM/DM54LS373.pdf; ComponentLink3Description: URL Link1; ComponentLink3URL: http://www.national.com/pf/DM/DM54LS374.html
footprint J20A (DIP; 20 Leads; Row Spacing 7.62 mm; Pitch 2.54 mm)
3D model J20A (DIP; 20 Leads; Row Spacing 7.62 mm; Pitch 2.54 mm)
simulation model 74LS374 (SIMCODE)
signal-integrity model DM54LS374J
pins: 1 ~{OE} (in), 2 Q1 (hiz), 3 D1 (in), 4 D2 (in), 5 Q2 (hiz), 6 Q3 (hiz), 7 D3 (in), 8 D4 (in), 9 Q4 (hiz), 10 GND (power), 11 CLK (in), 12 Q5 (hiz), 13 D5 (in), 14 D6 (in), 15 Q6 (hiz), 16 Q7 (hiz), 17 D7 (in), 18 D8 (in), 19 Q8 (hiz), 20 VCC (power)

## DM54LS374W
designator U?
Tri-State Octal D-Type Transparent Latch and Edge-Triggered Flip-Flop; ComponentAvailability: Obsolete; Published: 15-Apr-2002; LatestRevisionDate: 06-Jun-2005; LatestRevisionNote: Stylized 3D Model Added.; DatasheetVersion: May-1992; PackageVersion: 2000; PackageReference: W20A; Publisher: Altium Limited; PackageDescription: DFP; 20 Leads; Body 13.7 x 7.2 mm (LxW max); Pitch 1.27 mm; ComponentLink1Description: Manufacturer Link; ComponentLink1URL: http://www.national.com/; ComponentLink2Description: Datasheet; ComponentLink2URL: http://www.national.com/ds.cgi/DM/DM54LS373.pdf; ComponentLink3Description: URL Link1; ComponentLink3URL: http://www.national.com/pf/DM/DM54LS374.html
footprint W20A (DFP; 20 Leads; Body 13.7 x 7.2 mm (LxW max); Pitch 1.27 mm)
3D model W20A (DFP; 20 Leads; Body 13.7 x 7.2 mm (LxW max); Pitch 1.27 mm)
simulation model 74LS374 (SIMCODE)
signal-integrity model DM54LS374W
pins: 1 ~{OE} (in), 2 Q1 (hiz), 3 D1 (in), 4 D2 (in), 5 Q2 (hiz), 6 Q3 (hiz), 7 D3 (in), 8 D4 (in), 9 Q4 (hiz), 10 GND (power), 11 CLK (in), 12 Q5 (hiz), 13 D5 (in), 14 D6 (in), 15 Q6 (hiz), 16 Q7 (hiz), 17 D7 (in), 18 D8 (in), 19 Q8 (hiz), 20 VCC (power)

## DM74LS170N
designator U?
4X4 Register File with Open-Collector Output; Published: 15-Apr-2002; LatestRevisionDate: 06-Jun-2005; LatestRevisionNote: Stylized 3D Model Added.; DatasheetVersion: Jan-1992; PackageVersion: 2000; PackageReference: N16E; Publisher: Altium Limited; PackageDescription: DIP; 16 Leads; Row Spacing 7.62 mm; Pitch 2.54 mm; ComponentLink1Description: Manufacturer Link; ComponentLink1URL: http://www.national.com/
footprint N16E (DIP; 16 Leads; Row Spacing 7.62 mm; Pitch 2.54 mm)
3D model N16E (DIP; 16 Leads; Row Spacing 7.62 mm; Pitch 2.54 mm)
signal-integrity model DM74LS170N
pins: 1 D2 (in), 2 D3 (in), 3 D4 (in), 4 RB (in), 5 RA (in), 6 Q4 (oc), 7 Q3 (oc), 8 GND (power), 9 Q2 (oc), 10 Q1 (oc), 11 ~{G}R (in), 12 ~{G}W (in), 13 WB (in), 14 WA (in), 15 D1 (in), 16 VCC (power)

## DM74LS170WM
designator U?
4X4 Register File with Open-Collector Output; Published: 15-Apr-2002; LatestRevisionDate: 13-Apr-2006; LatestRevisionNote: IPC-7351 Footprint Added.; DatasheetVersion: Jan-1992; PackageVersion: 2000; PackageReference: M16B; Publisher: Altium Limited; PackageDescription: 16-Pin Small Outline Integrated Circuit 1.27 mm Pitch; Code_JEDEC: MS-013-AA; Code_IPC: SOIC127P1030-16; ComponentLink1Description: Manufacturer Link; ComponentLink1URL: http://www.national.com/
footprint M16B_N (SOIC, 16-Leads, Body 10.3x7.5mm, Pitch 1.27mm, IPC Medium Density)
footprint M16B_L (SOIC, 16-Leads, Body 10.3x7.5mm, Pitch 1.27mm, IPC High Density)
footprint M16B_M (SOIC, 16-Leads, Body 10.3x7.5mm, Pitch 1.27mm, IPC Low Density)
3D model M16B (16-Pin Small Outline Integrated Circuit 1.27 mm Pitch)
signal-integrity model DM74LS170WM
pins: 1 D2 (in), 2 D3 (in), 3 D4 (in), 4 RB (in), 5 RA (in), 6 Q4 (oc), 7 Q3 (oc), 8 GND (power), 9 Q2 (oc), 10 Q1 (oc), 11 ~{G}R (in), 12 ~{G}W (in), 13 WB (in), 14 WA (in), 15 D1 (in), 16 VCC (power)

## DM74LS259M
designator U?
8-Bit Addressable Latch; Published: 15-Apr-2002; LatestRevisionDate: 13-Apr-2006; LatestRevisionNote: IPC-7351 Footprint Added.; DatasheetVersion: May-1992; PackageVersion: 2000; PackageReference: M16A; Publisher: Altium Limited; PackageDescription: 16-Pin Small Outline Integrated Circuit 1.27 mm Pitch; Code_IPC: SOIC127P600-16; ComponentLink1Description: Manufacturer Link; ComponentLink1URL: http://www.national.com/; ComponentLink2Description: Datasheet; ComponentLink2URL: http://www.national.com/ds.cgi/DM/DM54LS259.pdf; ComponentLink3Description: URL Link1; ComponentLink3URL: http://www.national.com/pf/DM/DM54LS259.html
footprint M16A_N (SOIC, 16-Leads, Body 9.9x3.9mm, Pitch 1.27mm, IPC Medium Density)
footprint M16A_L (SOIC, 16-Leads, Body 9.9x3.9mm, Pitch 1.27mm, IPC High Density)
footprint M16A_M (SOIC, 16-Leads, Body 9.9x3.9mm, Pitch 1.27mm, IPC Low Density)
3D model M16A (16-Pin Small Outline Integrated Circuit 1.27 mm Pitch)
simulation model 74LS259 (SIMCODE)
signal-integrity model DM74LS259M
pins: 1 S0 (in), 2 S1 (in), 3 S2 (in), 4 Q0 (out), 5 Q1 (out), 6 Q2 (out), 7 Q3 (out), 8 GND (power), 9 Q4 (out), 10 Q5 (out), 11 Q6 (out), 12 Q7 (out), 13 D (in), 14 ~{G} (in), 15 ~{CLR} (in), 16 VCC (power)

## DM74LS259N
designator U?
8-Bit Addressable Latch; Published: 15-Apr-2002; LatestRevisionDate: 06-Jun-2005; LatestRevisionNote: Stylized 3D Model Added.; DatasheetVersion: May-1992; PackageVersion: 2000; PackageReference: N16E; Publisher: Altium Limited; PackageDescription: DIP; 16 Leads; Row Spacing 7.62 mm; Pitch 2.54 mm; ComponentLink1Description: Manufacturer Link; ComponentLink1URL: http://www.national.com/; ComponentLink2Description: Datasheet; ComponentLink2URL: http://www.national.com/ds.cgi/DM/DM54LS259.pdf; ComponentLink3Description: URL Link1; ComponentLink3URL: http://www.national.com/pf/DM/DM54LS259.html
footprint N16E (DIP; 16 Leads; Row Spacing 7.62 mm; Pitch 2.54 mm)
3D model N16E (DIP; 16 Leads; Row Spacing 7.62 mm; Pitch 2.54 mm)
simulation model 74LS259 (SIMCODE)
signal-integrity model DM74LS259N
pins: 1 S0 (in), 2 S1 (in), 3 S2 (in), 4 Q0 (out), 5 Q1 (out), 6 Q2 (out), 7 Q3 (out), 8 GND (power), 9 Q4 (out), 10 Q5 (out), 11 Q6 (out), 12 Q7 (out), 13 D (in), 14 ~{G} (in), 15 ~{CLR} (in), 16 VCC (power)

## DM74LS259WM
designator U?
8-Bit Addressable Latch; Published: 15-Apr-2002; LatestRevisionDate: 13-Apr-2006; LatestRevisionNote: IPC-7351 Footprint Added.; DatasheetVersion: May-1992; PackageVersion: 2000; PackageReference: M16B; Publisher: Altium Limited; PackageDescription: 16-Pin Small Outline Integrated Circuit 1.27 mm Pitch; Code_JEDEC: MS-013-AA; Code_IPC: SOIC127P1030-16; ComponentLink1Description: Manufacturer Link; ComponentLink1URL: http://www.national.com/; ComponentLink2Description: Datasheet; ComponentLink2URL: http://www.national.com/ds.cgi/DM/DM54LS259.pdf; ComponentLink3Description: URL Link1; ComponentLink3URL: http://www.national.com/pf/DM/DM54LS259.html
footprint M16B_N (SOIC, 16-Leads, Body 10.3x7.5mm, Pitch 1.27mm, IPC Medium Density)
footprint M16B_L (SOIC, 16-Leads, Body 10.3x7.5mm, Pitch 1.27mm, IPC High Density)
footprint M16B_M (SOIC, 16-Leads, Body 10.3x7.5mm, Pitch 1.27mm, IPC Low Density)
3D model M16B (16-Pin Small Outline Integrated Circuit 1.27 mm Pitch)
simulation model 74LS259 (SIMCODE)
signal-integrity model DM74LS259WM
pins: 1 S0 (in), 2 S1 (in), 3 S2 (in), 4 Q0 (out), 5 Q1 (out), 6 Q2 (out), 7 Q3 (out), 8 GND (power), 9 Q4 (out), 10 Q5 (out), 11 Q6 (out), 12 Q7 (out), 13 D (in), 14 ~{G} (in), 15 ~{CLR} (in), 16 VCC (power)

## DM74LS279M
designator U?
Quad S-R Latch; Published: 15-Apr-2002; LatestRevisionDate: 13-Apr-2006; LatestRevisionNote: IPC-7351 Footprint Added.; DatasheetVersion: May-1989; PackageVersion: 2000; PackageReference: M16A; Publisher: Altium Limited; PackageDescription: 16-Pin Small Outline Integrated Circuit 1.27 mm Pitch; Code_IPC: SOIC127P600-16; ComponentLink1Description: Manufacturer Link; ComponentLink1URL: http://www.national.com/; ComponentLink2Description: Datasheet; ComponentLink2URL: http://www.national.com/ds.cgi/54/54LS279.pdf; ComponentLink3Description: URL Link1; ComponentLink3URL: http://www.national.com/pf/DM/DM54LS279.html
footprint M16A_N (SOIC, 16-Leads, Body 9.9x3.9mm, Pitch 1.27mm, IPC Medium Density)
footprint M16A_L (SOIC, 16-Leads, Body 9.9x3.9mm, Pitch 1.27mm, IPC High Density)
footprint M16A_M (SOIC, 16-Leads, Body 9.9x3.9mm, Pitch 1.27mm, IPC Low Density)
3D model M16A (16-Pin Small Outline Integrated Circuit 1.27 mm Pitch)
signal-integrity model DM74LS279M
pins on every part: 8 GND (power) hidden to GND, 16 VCC (power) hidden to VCC
part A pins: 1 ~{R} (in), 2 ~{S}1 (in), 3 ~{S}2 (in), 4 Q (out)
part B pins: 5 ~{R} (in), 6 ~{S} (in), 7 Q (out)
part C pins: 9 Q (out), 10 ~{R} (in), 11 ~{S}1 (in), 12 ~{S}2 (in)
part D pins: 13 Q (out), 14 ~{R} (in), 15 ~{S} (in)

## DM74LS279N
designator U?
Quad S-R Latch; Published: 15-Apr-2002; LatestRevisionDate: 06-Jun-2005; LatestRevisionNote: Stylized 3D Model Added.; DatasheetVersion: May-1989; PackageVersion: 2000; PackageReference: N16E; Publisher: Altium Limited; PackageDescription: DIP; 16 Leads; Row Spacing 7.62 mm; Pitch 2.54 mm; ComponentLink1Description: Manufacturer Link; ComponentLink1URL: http://www.national.com/; ComponentLink2Description: Datasheet; ComponentLink2URL: http://www.national.com/ds.cgi/54/54LS279.pdf; ComponentLink3Description: URL Link1; ComponentLink3URL: http://www.national.com/pf/DM/DM54LS279.html
footprint N16E (DIP; 16 Leads; Row Spacing 7.62 mm; Pitch 2.54 mm)
3D model N16E (DIP; 16 Leads; Row Spacing 7.62 mm; Pitch 2.54 mm)
signal-integrity model DM74LS279N
pins on every part: 8 GND (power) hidden to GND, 16 VCC (power) hidden to VCC
part A pins: 1 ~{R} (in), 2 ~{S}1 (in), 3 ~{S}2 (in), 4 Q (out)
part B pins: 5 ~{R} (in), 6 ~{S} (in), 7 Q (out)
part C pins: 9 Q (out), 10 ~{R} (in), 11 ~{S}1 (in), 12 ~{S}2 (in)
part D pins: 13 Q (out), 14 ~{R} (in), 15 ~{S} (in)

## DM74LS373N
designator U?
Tri-State Octal D-Type Transparent Latch and Edge-Triggered Flip-Flop; Note: Generic Sim model provided.; Published: 15-Apr-2002; LatestRevisionDate: 06-Jun-2005; LatestRevisionNote: Stylized 3D Model Added.; DatasheetVersion: May-1992; PackageVersion: 2000; PackageReference: N20A; Publisher: Altium Limited; PackageDescription: DIP; 20 Leads; Row Spacing 7.62 mm; Pitch 2.54 mm; Code_JEDEC: MS-001-AD; ComponentLink1Description: Manufacturer Link; ComponentLink1URL: http://www.national.com/; ComponentLink2Description: Datasheet; ComponentLink2URL: http://www.national.com/ds.cgi/DM/DM54LS373.pdf; ComponentLink3Description: URL Link1; ComponentLink3URL: http://www.national.com/pf/DM/DM54LS373.html
footprint N20A (DIP; 20 Leads; Row Spacing 7.62 mm; Pitch 2.54 mm)
3D model N20A (DIP; 20 Leads; Row Spacing 7.62 mm; Pitch 2.54 mm)
simulation model 74LS373 (SIMCODE)
signal-integrity model DM74LS373N
pins: 1 ~{OE} (in), 2 Q1 (hiz), 3 D1 (in), 4 D2 (in), 5 Q2 (hiz), 6 Q3 (hiz), 7 D3 (in), 8 D4 (in), 9 Q4 (hiz), 10 GND (power), 11 LE (in), 12 Q5 (hiz), 13 D5 (in), 14 D6 (in), 15 Q6 (hiz), 16 Q7 (hiz), 17 D7 (in), 18 D8 (in), 19 Q8 (hiz), 20 VCC (power)

## DM74LS373WM
designator U?
Tri-State Octal D-Type Transparent Latch and Edge-Triggered Flip-Flop; Note: Generic Sim model provided.; Published: 15-Apr-2002; LatestRevisionDate: 13-Apr-2006; LatestRevisionNote: IPC-7351 Footprint Added.; DatasheetVersion: May-1992; PackageVersion: 2000; PackageReference: M20B; Publisher: Altium Limited; PackageDescription: 20-Pin Small Outline Integrated Circuit 1.27 mm Pitch; Code_JEDEC: MS-013-AC; Code_IPC: SOIC127P1030-20; ComponentLink1Description: Manufacturer Link; ComponentLink1URL: http://www.national.com/; ComponentLink2Description: Datasheet; ComponentLink2URL: http://www.national.com/ds.cgi/DM/DM54LS373.pdf; ComponentLink3Description: URL Link1; ComponentLink3URL: http://www.national.com/pf/DM/DM54LS373.html
footprint M20B_N (SOIC, 20-Leads, Body 12.8x7.5mm, Pitch 1.27mm, IPC Medium Density)
footprint M20B_L (SOIC, 20-Leads, Body 12.8x7.5mm, Pitch 1.27mm, IPC High Density)
footprint M20B_M (SOIC, 20-Leads, Body 12.8x7.5mm, Pitch 1.27mm, IPC Low Density)
3D model M20B (20-Pin Small Outline Integrated Circuit 1.27 mm Pitch)
simulation model 74LS373 (SIMCODE)
signal-integrity model DM74LS373WM
pins: 1 ~{OE} (in), 2 Q1 (hiz), 3 D1 (in), 4 D2 (in), 5 Q2 (hiz), 6 Q3 (hiz), 7 D3 (in), 8 D4 (in), 9 Q4 (hiz), 10 GND (power), 11 LE (in), 12 Q5 (hiz), 13 D5 (in), 14 D6 (in), 15 Q6 (hiz), 16 Q7 (hiz), 17 D7 (in), 18 D8 (in), 19 Q8 (hiz), 20 VCC (power)